# Altium footprint library RES-TH_L14.5-W6.0-P7.50-D0.8-S6.0.PcbLib: 1 footprints
Each footprint in its own frame and in the unit in brackets; x right, y up, seen from the top. Pads: shape width x height; smd on the part's side, far side on the other; paste and mask are expansions set on the pad; w line width, h text height; cw(c..) or ccw(c..) is an arc to the next point about the centre after c.
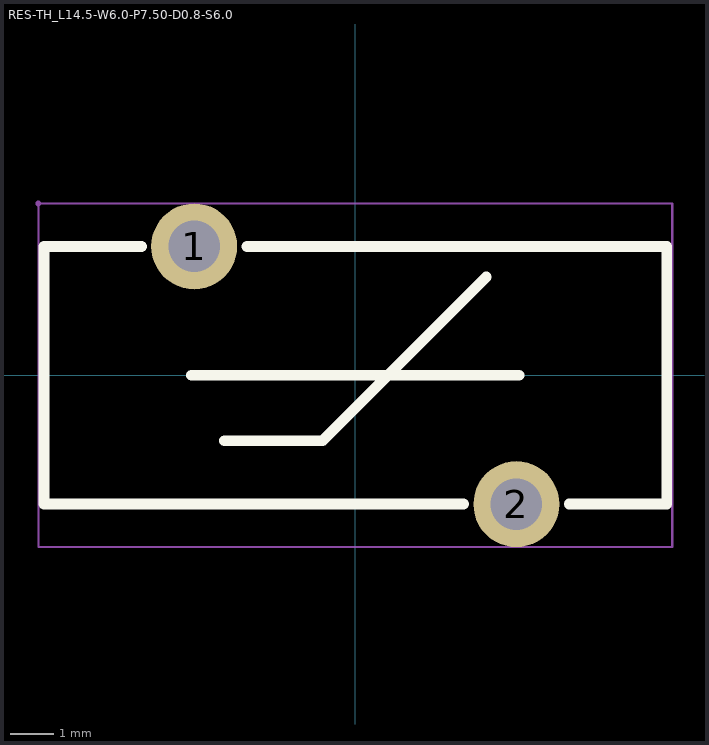
[diagram p0: the footprint, top view; thin cyan lines are the x and y axes]

## RES-TH_L14.5-W6.0-P7.50-D0.8-S6.0 [mm]
pads (2):
  round 2 hole 1.2: 1(-3.75,3) 2(3.75,-3)
Top Overlay:
  lines w0.254: -4.981,3 -7.25,3 -7.25,-3 2.519,-3 ; -3.81,0 3.81,0 ; -3.048,-1.524 -0.762,-1.524 3.048,2.286 ; -2.519,3 7.25,3 7.25,-3 4.981,-3
Mechanical 15:
  region: -7.317,4 -7.317,3.975 -7.352,3.94 -7.402,3.94 -7.437,3.975 -7.437,4 -7.437,4.025 -7.402,4.06 -7.352,4.06 -7.317,4.025 -7.317,4
  region: 4.25,-3 4.25,-3.099 4.174,-3.283 4.033,-3.424 3.849,-3.5 3.651,-3.5 3.467,-3.424 3.326,-3.283 3.25,-3.099 3.25,-3 3.25,-2.901 3.326,-2.717 3.467,-2.576 3.651,-2.5 3.849,-2.5 4.033,-2.576 4.174,-2.717 4.25,-2.901 4.25,-3
  region: -3.25,3 -3.25,2.901 -3.326,2.717 -3.467,2.576 -3.651,2.5 -3.849,2.5 -4.033,2.576 -4.174,2.717 -4.25,2.901 -4.25,3 -4.25,3.099 -4.174,3.283 -4.033,3.424 -3.849,3.5 -3.651,3.5 -3.467,3.424 -3.326,3.283 -3.25,3.099 -3.25,3
  lines w0.051: -7.377,-4 -7.377,4 7.377,4 7.377,-4 -7.377,-4